# Altium footprint library DS1120-96M-R13.PcbLib: 1 footprints
Each footprint in its own frame and in the unit in brackets; x right, y up, seen from the top. Pads: shape width x height; smd on the part's side, far side on the other; paste and mask are expansions set on the pad; w line width, h text height; cw(c..) or ccw(c..) is an arc to the next point about the centre after c.
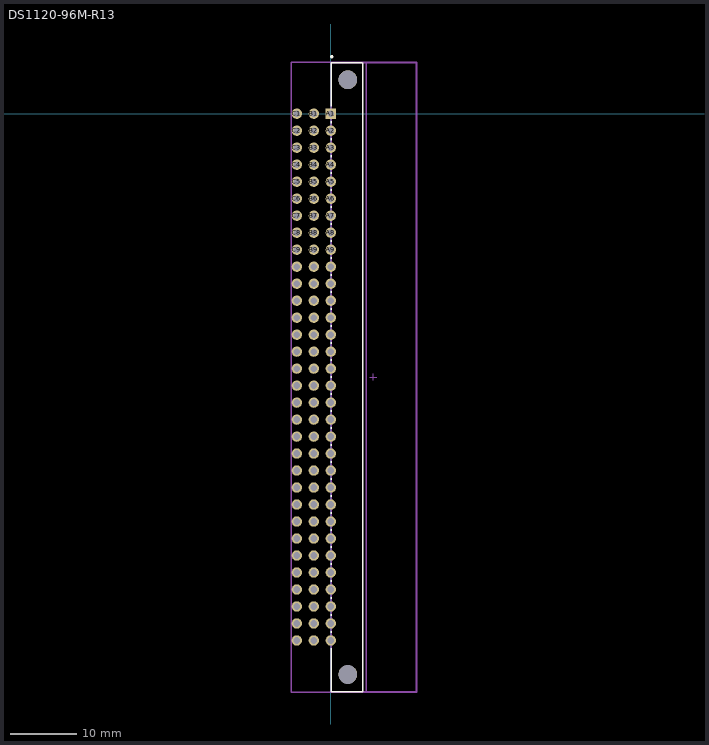
[diagram p0: the footprint, top view; thin cyan lines are the x and y axes]

## DS1120-96M-R13 [mm]
height 10.9
pads (98):
  rect 1.55x1.55 hole 1 paste-1000 mask+0: A1(0,0)
  round 1.55 hole 1 paste-1000 mask+0: A2(0,-2.54) A3(0,-5.08) A4(0,-7.62) A5(0,-10.16) A6(0,-12.7) A7(0,-15.24) A8(0,-17.78) A9(0,-20.32) A10(0,-22.86) A11(0,-25.4) A12(0,-27.94) A13(0,-30.48) A14(0,-33.02) A15(0,-35.56) A16(0,-38.1) A17(0,-40.64) A18(0,-43.18) A19(0,-45.72) A20(0,-48.26) A21(0,-50.8) A22(0,-53.34) A23(0,-55.88) A24(0,-58.42) A25(0,-60.96) A26(0,-63.5) A27(0,-66.04) A28(0,-68.58) A29(0,-71.12) A30(0,-73.66) A31(0,-76.2) A32(0,-78.74) B1(-2.54,0) B2(-2.54,-2.54) B3(-2.54,-5.08) B4(-2.54,-7.62) B5(-2.54,-10.16) B6(-2.54,-12.7) B7(-2.54,-15.24) B8(-2.54,-17.78) B9(-2.54,-20.32) B10(-2.54,-22.86) B11(-2.54,-25.4) B12(-2.54,-27.94) B13(-2.54,-30.48) B14(-2.54,-33.02) B15(-2.54,-35.56) B16(-2.54,-38.1) B17(-2.54,-40.64) B18(-2.54,-43.18) B19(-2.54,-45.72) B20(-2.54,-48.26) B21(-2.54,-50.8) B22(-2.54,-53.34) B23(-2.54,-55.88) B24(-2.54,-58.42) B25(-2.54,-60.96) B26(-2.54,-63.5) B27(-2.54,-66.04) B28(-2.54,-68.58) B29(-2.54,-71.12) B30(-2.54,-73.66) B31(-2.54,-76.2) B32(-2.54,-78.74) C1(-5.08,0) C2(-5.08,-2.54) C3(-5.08,-5.08) C4(-5.08,-7.62) C5(-5.08,-10.16) C6(-5.08,-12.7) C7(-5.08,-15.24) C8(-5.08,-17.78) C9(-5.08,-20.32) C10(-5.08,-22.86) C11(-5.08,-25.4) C12(-5.08,-27.94) C13(-5.08,-30.48) C14(-5.08,-33.02) C15(-5.08,-35.56) C16(-5.08,-38.1) C17(-5.08,-40.64) C18(-5.08,-43.18) C19(-5.08,-45.72) C20(-5.08,-48.26) C21(-5.08,-50.8) C22(-5.08,-53.34) C23(-5.08,-55.88) C24(-5.08,-58.42) C25(-5.08,-60.96) C26(-5.08,-63.5) C27(-5.08,-66.04) C28(-5.08,-68.58) C29(-5.08,-71.12) C30(-5.08,-73.66) C31(-5.08,-76.2) C32(-5.08,-78.74)
  round 2.79 hole 2.79 unplated paste-1000 mask+0: ""(2.54,-83.82) ""(2.54,5.08)
Top Overlay:
  circle w0.25: c0.13,8.53 r0.125
  lines w0.2: 0.02,-86.37 0.02,-79.89 ; 0.02,-77.59 0.02,-77.35 ; 0.02,-75.05 0.02,-74.81 ; 0.02,-72.51 0.02,-72.27 ; 0.02,-69.97 0.02,-69.73 ; 0.02,-67.43 0.02,-67.19 ; 0.02,-64.89 0.02,-64.65 ; 0.02,-62.35 0.02,-62.11 ; 0.02,-59.81 0.02,-59.57 ; 0.02,-57.27 0.02,-57.03 ; 0.02,-54.73 0.02,-54.49 ; 0.02,-52.19 0.02,-51.95 ; 0.02,-49.65 0.02,-49.41 ; 0.02,-47.11 0.02,-46.87 ; 0.02,-44.57 0.02,-44.33 ; 0.02,-42.03 0.02,-41.79 ; 0.02,-39.49 0.02,-39.25 ; 0.02,-36.95 0.02,-36.71 ; 0.02,-34.41 0.02,-34.17 ; 0.02,-31.87 0.02,-31.63 ; 0.02,-29.33 0.02,-29.09 ; 0.02,-26.79 0.02,-26.55 ; 0.02,-24.25 0.02,-24.01 ; 0.02,-21.71 0.02,-21.47 ; 0.02,-19.17 0.02,-18.93 ; 0.02,-16.63 0.02,-16.39 ; 0.02,-14.09 0.02,-13.85 ; 0.02,-11.55 0.02,-11.31 ; 0.02,-9.01 0.02,-8.77 ; 0.02,-6.47 0.02,-6.23 ; 0.02,-3.93 0.02,-3.69 ; 0.02,-1.39 0.02,-1.15 ; 0.02,1.15 0.02,7.63 ; 0.03,-86.39 4.735,-86.39 ; 0.075,7.63 4.655,7.63 ; 4.74,-86.37 4.74,7.63
Top 3D Body:
  lines w0.2: 5.31,-86.47 5.31,7.73 ; 0.02,-86.37 0.02,7.63 12.77,7.63 12.77,-86.37 0.02,-86.37
Top Courtyard:
  lines w0.2: -5.955,-86.47 -5.955,7.73 12.87,7.73 12.87,-86.47 -5.955,-86.47
Top Component Center:
  lines w0.1: 5.83,-39.37 6.83,-39.37 ; 6.33,-39.87 6.33,-38.87
3D body "Conn_TE_5650473-5_eec.STEP": height 0.25, standoff 0, extent -5.955,-86.47 12.87,7.73